# Altium footprint library PCB - MECHANICAL - KEYSTONE 621.PCBLIB: 1 footprints
Each footprint in its own frame and in the unit in brackets; x right, y up, seen from the top. Pads: shape width x height; smd on the part's side, far side on the other; paste and mask are expansions set on the pad; w line width, h text height; cw(c..) or ccw(c..) is an arc to the next point about the centre after c.
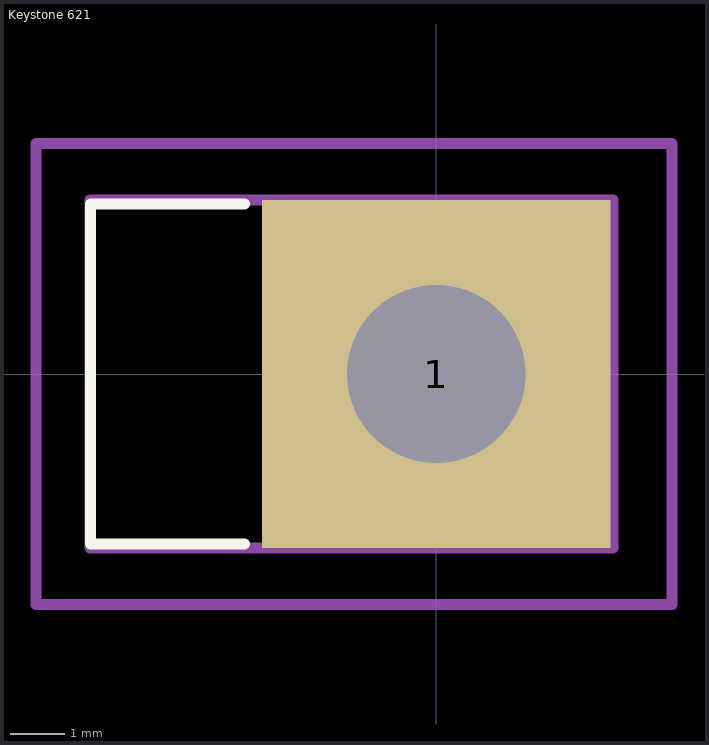
[diagram p0: the footprint, top view; thin cyan lines are the x and y axes]

## Keystone 621 [mm]
height 8.71
pads (1):
  rect 6.35x6.35 hole 3.25: 1(0,0)
Top Overlay:
  lines w0.2: -3.5,-3.1 -6.3,-3.1 -6.3,3.1 -3.5,3.1
Mechanical 1:
  lines w0.2: -6.3,-3.175 -6.312,-3.175 ; -6.312,-3.175 -6.312,3.175 3.218,3.175 3.218,-3.175 -6.312,-3.175
Mechanical 15:
  lines w0.2: -1,0 1,0 ; 0,-1 0,1 ; -7.3,-4.2 4.3,-4.2 4.3,4.2 -7.3,4.2 -7.3,-4.2
3D body "Keystone 621.STEP": height 8.71, standoff 0, extent -6.312,-3.175 3.218,3.175